# Altium footprint library con-wago255.PCBLIB: 101 footprints (part 7 of 7)
Each footprint in its own frame and in the unit in brackets; x right, y up, seen from the top. Pads: shape width x height; smd on the part's side, far side on the other; paste and mask are expansions set on the pad; w line width, h text height; cw(c..) or ccw(c..) is an arc to the next point about the centre after c.
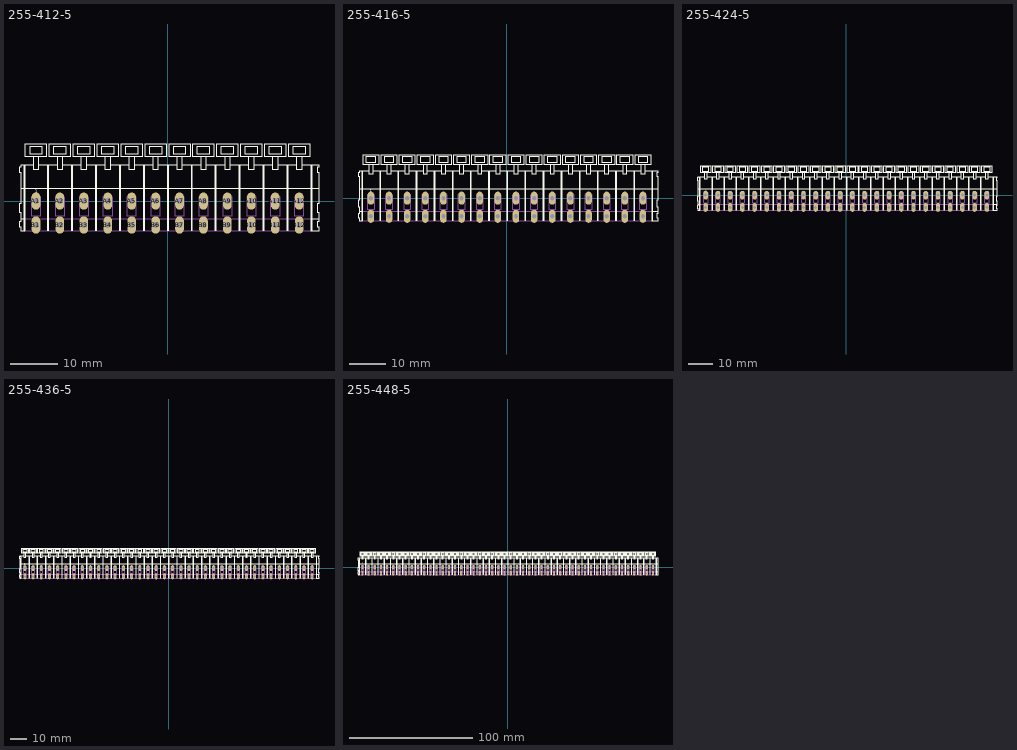
[diagram p6: the footprints below, top view; thin cyan lines are the x and y axes]

## 255-412-5 [mm]
pads (24):
  oval 1.8x3.6 hole 1.2: A1(-27.5,0) A2(-22.5,0) A3(-17.5,0) A4(-12.5,0) A5(-7.5,0) A6(-2.5,0) A7(2.5,0) A8(7.5,0) A9(12.5,0) A10(17.5,0) A11(22.5,0) A12(27.5,0) B1(-27.5,-5) B2(-22.5,-5) B3(-17.5,-5) B4(-12.5,-5) B5(-7.5,-5) B6(-2.5,-5) B7(2.5,-5) B8(7.5,-5) B9(12.5,-5) B10(17.5,-5) B11(22.5,-5) B12(27.5,-5)
Top Overlay:
  drawing of 276 lines, arcs and shapes, not listed
  text "1" at -27.75,1.35 h1.26
Mechanical 16:
  lines w0.203: -30,-3.65 29.9,-3.65 ; -29.85,-6.2 29.9,-6.2 ; -28.45,-3.05 -28.45,0.75 -26.5,0.75 -26.5,-3.05 -28.45,-3.05 ; -23.5,-3.05 -23.5,0.75 -21.5,0.75 -21.5,-3.05 -23.5,-3.05 ; -18.5,-3.05 -18.5,0.75 -16.5,0.75 -16.5,-3.05 -18.5,-3.05 ; -13.5,-3.05 -13.5,0.75 -11.5,0.75 -11.5,-3.05 -13.5,-3.05 ; -8.5,-3.05 -8.5,0.75 -6.5,0.75 -6.5,-3.05 -8.5,-3.05 ; -3.5,-3.05 -3.5,0.75 -1.5,0.75 -1.5,-3.05 -3.5,-3.05 ; 1.5,-3.05 1.5,0.75 3.5,0.75 3.5,-3.05 1.5,-3.05 ; 6.5,-3.05 6.5,0.75 8.5,0.75 8.5,-3.05 6.5,-3.05 ; 11.5,-3.05 11.5,0.75 13.5,0.75 13.5,-3.05 11.5,-3.05 ; 16.5,-3.05 16.5,0.75 18.5,0.75 18.5,-3.05 16.5,-3.05 ; 21.5,-3.05 21.5,0.75 23.5,0.75 23.5,-3.05 21.5,-3.05 ; 26.5,-3.05 26.5,0.75 28.5,0.75 28.5,-3.05 26.5,-3.05

## 255-416-5 [mm]
pads (32):
  oval 1.8x3.6 hole 1.2: A1(-37.5,0) A2(-32.5,0) A3(-27.5,0) A4(-22.5,0) A5(-17.5,0) A6(-12.5,0) A7(-7.5,0) A8(-2.5,0) A9(2.5,0) A10(7.5,0) A11(12.5,0) A12(17.5,0) A13(22.5,0) A14(27.5,0) A15(32.5,0) A16(37.5,0) B1(-37.5,-5) B2(-32.5,-5) B3(-27.5,-5) B4(-22.5,-5) B5(-17.5,-5) B6(-12.5,-5) B7(-7.5,-5) B8(-2.5,-5) B9(2.5,-5) B10(7.5,-5) B11(12.5,-5) B12(17.5,-5) B13(22.5,-5) B14(27.5,-5) B15(32.5,-5) B16(37.5,-5)
Top Overlay:
  drawing of 356 lines, arcs and shapes, not listed
  text "1" at -37.75,1.35 h1.26
Mechanical 16:
  lines w0.203: -40,-3.65 39.9,-3.65 ; -39.85,-6.2 39.9,-6.2 ; -38.45,-3.05 -38.45,0.75 -36.5,0.75 -36.5,-3.05 -38.45,-3.05 ; -33.5,-3.05 -33.5,0.75 -31.5,0.75 -31.5,-3.05 -33.5,-3.05 ; -28.5,-3.05 -28.5,0.75 -26.5,0.75 -26.5,-3.05 -28.5,-3.05 ; -23.5,-3.05 -23.5,0.75 -21.5,0.75 -21.5,-3.05 -23.5,-3.05 ; -18.5,-3.05 -18.5,0.75 -16.5,0.75 -16.5,-3.05 -18.5,-3.05 ; -13.5,-3.05 -13.5,0.75 -11.5,0.75 -11.5,-3.05 -13.5,-3.05 ; -8.5,-3.05 -8.5,0.75 -6.5,0.75 -6.5,-3.05 -8.5,-3.05 ; -3.5,-3.05 -3.5,0.75 -1.5,0.75 -1.5,-3.05 -3.5,-3.05 ; 1.5,-3.05 1.5,0.75 3.5,0.75 3.5,-3.05 1.5,-3.05 ; 6.5,-3.05 6.5,0.75 8.5,0.75 8.5,-3.05 6.5,-3.05 ; 11.5,-3.05 11.5,0.75 13.5,0.75 13.5,-3.05 11.5,-3.05 ; 16.5,-3.05 16.5,0.75 18.5,0.75 18.5,-3.05 16.5,-3.05 ; 21.5,-3.05 21.5,0.75 23.5,0.75 23.5,-3.05 21.5,-3.05 ; 26.5,-3.05 26.5,0.75 28.5,0.75 28.5,-3.05 26.5,-3.05 ; 31.5,-3.05 31.5,0.75 33.5,0.75 33.5,-3.05 31.5,-3.05 ; 36.5,-3.05 36.5,0.75 38.5,0.75 38.5,-3.05 36.5,-3.05

## 255-424-5 [mm]
pads (48):
  oval 1.8x3.6 hole 1.2: A1(-57.5,0) A2(-52.5,0) A3(-47.5,0) A4(-42.5,0) A5(-37.5,0) A6(-32.5,0) A7(-27.5,0) A8(-22.5,0) A9(-17.5,0) A10(-12.5,0) A11(-7.5,0) A12(-2.5,0) A13(2.5,0) A14(7.5,0) A15(12.5,0) A16(17.5,0) A17(22.5,0) A18(27.5,0) A19(32.5,0) A20(37.5,0) A21(42.5,0) A22(47.5,0) A23(52.5,0) A24(57.5,0) B1(-57.5,-5) B2(-52.5,-5) B3(-47.5,-5) B4(-42.5,-5) B5(-37.5,-5) B6(-32.5,-5) B7(-27.5,-5) B8(-22.5,-5) B9(-17.5,-5) B10(-12.5,-5) B11(-7.5,-5) B12(-2.5,-5) B13(2.5,-5) B14(7.5,-5) B15(12.5,-5) B16(17.5,-5) B17(22.5,-5) B18(27.5,-5) B19(32.5,-5) B20(37.5,-5) B21(42.5,-5) B22(47.5,-5) B23(52.5,-5) B24(57.5,-5)
Top Overlay:
  drawing of 516 lines, arcs and shapes, not listed
  text "1" at -57.75,1.35 h1.26
Mechanical 16:
  lines w0.203: -60,-3.65 59.9,-3.65 ; -59.85,-6.2 59.9,-6.2 ; -58.45,-3.05 -58.45,0.75 -56.5,0.75 -56.5,-3.05 -58.45,-3.05 ; -53.5,-3.05 -53.5,0.75 -51.5,0.75 -51.5,-3.05 -53.5,-3.05 ; -48.5,-3.05 -48.5,0.75 -46.5,0.75 -46.5,-3.05 -48.5,-3.05 ; -43.5,-3.05 -43.5,0.75 -41.5,0.75 -41.5,-3.05 -43.5,-3.05 ; -38.5,-3.05 -38.5,0.75 -36.5,0.75 -36.5,-3.05 -38.5,-3.05 ; -33.5,-3.05 -33.5,0.75 -31.5,0.75 -31.5,-3.05 -33.5,-3.05 ; -28.5,-3.05 -28.5,0.75 -26.5,0.75 -26.5,-3.05 -28.5,-3.05 ; -23.5,-3.05 -23.5,0.75 -21.5,0.75 -21.5,-3.05 -23.5,-3.05 ; -18.5,-3.05 -18.5,0.75 -16.5,0.75 -16.5,-3.05 -18.5,-3.05 ; -13.5,-3.05 -13.5,0.75 -11.5,0.75 -11.5,-3.05 -13.5,-3.05 ; -8.5,-3.05 -8.5,0.75 -6.5,0.75 -6.5,-3.05 -8.5,-3.05 ; -3.5,-3.05 -3.5,0.75 -1.5,0.75 -1.5,-3.05 -3.5,-3.05 ; 1.5,-3.05 1.5,0.75 3.5,0.75 3.5,-3.05 1.5,-3.05 ; 6.5,-3.05 6.5,0.75 8.5,0.75 8.5,-3.05 6.5,-3.05 ; 11.5,-3.05 11.5,0.75 13.5,0.75 13.5,-3.05 11.5,-3.05 ; 16.5,-3.05 16.5,0.75 18.5,0.75 18.5,-3.05 16.5,-3.05 ; 21.5,-3.05 21.5,0.75 23.5,0.75 23.5,-3.05 21.5,-3.05 ; 26.5,-3.05 26.5,0.75 28.5,0.75 28.5,-3.05 26.5,-3.05 ; 31.5,-3.05 31.5,0.75 33.5,0.75 33.5,-3.05 31.5,-3.05 ; 36.5,-3.05 36.5,0.75 38.5,0.75 38.5,-3.05 36.5,-3.05 ; 41.5,-3.05 41.5,0.75 43.5,0.75 43.5,-3.05 41.5,-3.05 ; 46.5,-3.05 46.5,0.75 48.5,0.75 48.5,-3.05 46.5,-3.05 ; 51.5,-3.05 51.5,0.75 53.5,0.75 53.5,-3.05 51.5,-3.05 ; 56.5,-3.05 56.5,0.75 58.5,0.75 58.5,-3.05 56.5,-3.05

## 255-436-5 [mm]
pads (72):
  oval 1.8x3.6 hole 1.2: A1(-87.5,0) A2(-82.5,0) A3(-77.5,0) A4(-72.5,0) A5(-67.5,0) A6(-62.5,0) A7(-57.5,0) A8(-52.5,0) A9(-47.5,0) A10(-42.5,0) A11(-37.5,0) A12(-32.5,0) A13(-27.5,0) A14(-22.5,0) A15(-17.5,0) A16(-12.5,0) A17(-7.5,0) A18(-2.5,0) A19(2.5,0) A20(7.5,0) A21(12.5,0) A22(17.5,0) A23(22.5,0) A24(27.5,0) A25(32.5,0) A26(37.5,0) A27(42.5,0) A28(47.5,0) A29(52.5,0) A30(57.5,0) A31(62.5,0) A32(67.5,0) A33(72.5,0) A34(77.5,0) A35(82.5,0) A36(87.5,0) B1(-87.5,-5) B2(-82.5,-5) B3(-77.5,-5) B4(-72.5,-5) B5(-67.5,-5) B6(-62.5,-5) B7(-57.5,-5) B8(-52.5,-5) B9(-47.5,-5) B10(-42.5,-5) B11(-37.5,-5) B12(-32.5,-5) B13(-27.5,-5) B14(-22.5,-5) B15(-17.5,-5) B16(-12.5,-5) B17(-7.5,-5) B18(-2.5,-5) B19(2.5,-5) B20(7.5,-5) B21(12.5,-5) B22(17.5,-5) B23(22.5,-5) B24(27.5,-5) B25(32.5,-5) B26(37.5,-5) B27(42.5,-5) B28(47.5,-5) B29(52.5,-5) B30(57.5,-5) B31(62.5,-5) B32(67.5,-5) B33(72.5,-5) B34(77.5,-5) B35(82.5,-5) B36(87.5,-5)
Top Overlay:
  drawing of 754 lines, arcs and shapes, not listed
  text "1" at -87.75,1.35 h1.26
Mechanical 16:
  lines w0.203: -90,-3.65 -30.1,-3.65 ; -89.85,-6.2 -30.1,-6.2 ; -30,-3.65 29.9,-3.65 ; -29.85,-6.2 29.9,-6.2 ; 30,-3.65 89.9,-3.65 ; 30.15,-6.2 89.9,-6.2 ; -88.45,-3.05 -88.45,0.75 -86.5,0.75 -86.5,-3.05 -88.45,-3.05 ; -83.5,-3.05 -83.5,0.75 -81.5,0.75 -81.5,-3.05 -83.5,-3.05 ; -78.5,-3.05 -78.5,0.75 -76.5,0.75 -76.5,-3.05 -78.5,-3.05 ; -73.5,-3.05 -73.5,0.75 -71.5,0.75 -71.5,-3.05 -73.5,-3.05 ; -68.5,-3.05 -68.5,0.75 -66.5,0.75 -66.5,-3.05 -68.5,-3.05 ; -63.5,-3.05 -63.5,0.75 -61.5,0.75 -61.5,-3.05 -63.5,-3.05 ; -58.5,-3.05 -58.5,0.75 -56.5,0.75 -56.5,-3.05 -58.5,-3.05 ; -53.5,-3.05 -53.5,0.75 -51.5,0.75 -51.5,-3.05 -53.5,-3.05 ; -48.5,-3.05 -48.5,0.75 -46.5,0.75 -46.5,-3.05 -48.5,-3.05 ; -43.5,-3.05 -43.5,0.75 -41.5,0.75 -41.5,-3.05 -43.5,-3.05 ; -38.5,-3.05 -38.5,0.75 -36.5,0.75 -36.5,-3.05 -38.5,-3.05 ; -33.5,-3.05 -33.5,0.75 -31.5,0.75 -31.5,-3.05 -33.5,-3.05 ; -28.45,-3.05 -28.45,0.75 -26.5,0.75 -26.5,-3.05 -28.45,-3.05 ; -23.5,-3.05 -23.5,0.75 -21.5,0.75 -21.5,-3.05 -23.5,-3.05 ; -18.5,-3.05 -18.5,0.75 -16.5,0.75 -16.5,-3.05 -18.5,-3.05 ; -13.5,-3.05 -13.5,0.75 -11.5,0.75 -11.5,-3.05 -13.5,-3.05 ; -8.5,-3.05 -8.5,0.75 -6.5,0.75 -6.5,-3.05 -8.5,-3.05 ; -3.5,-3.05 -3.5,0.75 -1.5,0.75 -1.5,-3.05 -3.5,-3.05 ; 1.5,-3.05 1.5,0.75 3.5,0.75 3.5,-3.05 1.5,-3.05 ; 6.5,-3.05 6.5,0.75 8.5,0.75 8.5,-3.05 6.5,-3.05 ; 11.5,-3.05 11.5,0.75 13.5,0.75 13.5,-3.05 11.5,-3.05 ; 16.5,-3.05 16.5,0.75 18.5,0.75 18.5,-3.05 16.5,-3.05 ; 21.5,-3.05 21.5,0.75 23.5,0.75 23.5,-3.05 21.5,-3.05 ; 26.5,-3.05 26.5,0.75 28.5,0.75 28.5,-3.05 26.5,-3.05 ; 31.55,-3.05 31.55,0.75 33.5,0.75 33.5,-3.05 31.55,-3.05 ; 36.5,-3.05 36.5,0.75 38.5,0.75 38.5,-3.05 36.5,-3.05 ; 41.5,-3.05 41.5,0.75 43.5,0.75 43.5,-3.05 41.5,-3.05 ; 46.5,-3.05 46.5,0.75 48.5,0.75 48.5,-3.05 46.5,-3.05 ; 51.5,-3.05 51.5,0.75 53.5,0.75 53.5,-3.05 51.5,-3.05 ; 56.5,-3.05 56.5,0.75 58.5,0.75 58.5,-3.05 56.5,-3.05 ; 61.5,-3.05 61.5,0.75 63.5,0.75 63.5,-3.05 61.5,-3.05 ; 66.5,-3.05 66.5,0.75 68.5,0.75 68.5,-3.05 66.5,-3.05 ; 71.5,-3.05 71.5,0.75 73.5,0.75 73.5,-3.05 71.5,-3.05 ; 76.5,-3.05 76.5,0.75 78.5,0.75 78.5,-3.05 76.5,-3.05 ; 81.5,-3.05 81.5,0.75 83.5,0.75 83.5,-3.05 81.5,-3.05 ; 86.5,-3.05 86.5,0.75 88.5,0.75 88.5,-3.05 86.5,-3.05

## 255-448-5 [mm]
pads (96):
  oval 1.8x3.6 hole 1.2: A1(-117.5,0) A2(-112.5,0) A3(-107.5,0) A4(-102.5,0) A5(-97.5,0) A6(-92.5,0) A7(-87.5,0) A8(-82.5,0) A9(-77.5,0) A10(-72.5,0) A11(-67.5,0) A12(-62.5,0) A13(-57.5,0) A14(-52.5,0) A15(-47.5,0) A16(-42.5,0) A17(-37.5,0) A18(-32.5,0) A19(-27.5,0) A20(-22.5,0) A21(-17.5,0) A22(-12.5,0) A23(-7.5,0) A24(-2.5,0) A25(2.5,0) A26(7.5,0) A27(12.5,0) A28(17.5,0) A29(22.5,0) A30(27.5,0) A31(32.5,0) A32(37.5,0) A33(42.5,0) A34(47.5,0) A35(52.5,0) A36(57.5,0) A37(62.5,0) A38(67.5,0) A39(72.5,0) A40(77.5,0) A41(82.5,0) A42(87.5,0) A43(92.5,0) A44(97.5,0) A45(102.5,0) A46(107.5,0) A47(112.5,0) A48(117.5,0) B1(-117.5,-5) B2(-112.5,-5) B3(-107.5,-5) B4(-102.5,-5) B5(-97.5,-5) B6(-92.5,-5) B7(-87.5,-5) B8(-82.5,-5) B9(-77.5,-5) B10(-72.5,-5) B11(-67.5,-5) B12(-62.5,-5) B13(-57.5,-5) B14(-52.5,-5) B15(-47.5,-5) B16(-42.5,-5) B17(-37.5,-5) B18(-32.5,-5) B19(-27.5,-5) B20(-22.5,-5) B21(-17.5,-5) B22(-12.5,-5) B23(-7.5,-5) B24(-2.5,-5) B25(2.5,-5) B26(7.5,-5) B27(12.5,-5) B28(17.5,-5) B29(22.5,-5) B30(27.5,-5) B31(32.5,-5) B32(37.5,-5) B33(42.5,-5) B34(47.5,-5) B35(52.5,-5) B36(57.5,-5) B37(62.5,-5) B38(67.5,-5) B39(72.5,-5) B40(77.5,-5) B41(82.5,-5) B42(87.5,-5) B43(92.5,-5) B44(97.5,-5) B45(102.5,-5) B46(107.5,-5) B47(112.5,-5) B48(117.5,-5)
Top Overlay:
  drawing of 992 lines, arcs and shapes, not listed
  text "1" at -117.75,1.35 h1.26
Mechanical 16:
  drawing of 198 lines, arcs and shapes, not listed